# Altium schematic symbol library TS360ILS_R1_00001.SchLib: 1 symbol
Pins are listed as number, name and electrical type; pins without a type are passive.

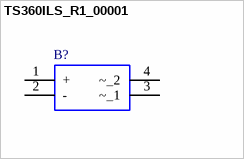
[diagram p0: symbol TS360ILS_R1_00001]

## TS360ILS_R1_00001
designator B?
Schottky Diodes & Rectifiers MICRO SURFACE MOUNT SCHOTTKY BRIDGE 60V 3A TDI; Manufacturer_Name: PANJIT; Geometry.Height: 1.45mm; Mouser Part Number: 241-TS360ILSR100001; Mouser Price/Stock: https://www.mouser.co.uk/ProductDetail/Panjit/TS360ILS_R1_00001?qs=sPbYRqrBIVlciIw6xf5DwA%3D%3D; Manufacturer_Part_Number: TS360ILS_R1_00001; Datasheet Link: https://www.mouser.co.id/datasheet/2/1057/TS360ILS-1877238.pdf
footprint SOP400P650X145-4N
pins: 1 +, 2 -, 3 ~_1, 4 ~_2